# Altium integrated library Stm32.IntLib: 3 symbols
Pins are listed as number, name and electrical type; pins without a type are passive.

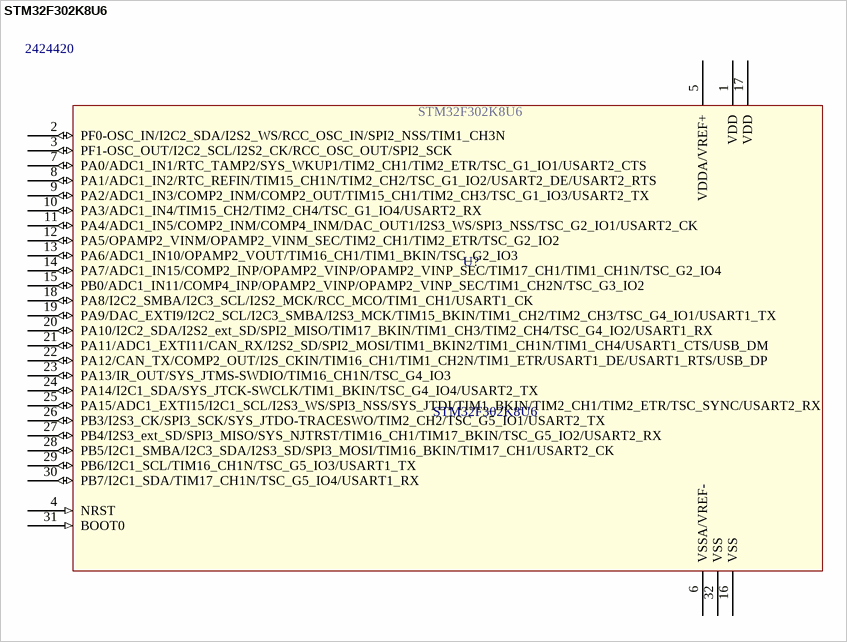
[diagram p0: symbol STM32F302K8U6]

## STM32F302K8U6
designator U?  Supplier Part Number 1: 2424420
Manufacturer: STMICROELECTRONICS; Pricing: 1=0.5, 25=0.4, 100=0.33, 250=0.27, 500=0.228, 2000=0.16, 2000=0.157, 20000=0.154 (EUR); Supplier 1: Farnell; Manufacturer Part Number: STM32F302K8U6
footprint QFN50P500X500X60_HS-33N (QFN, 32-Leads, Body 5,00x5,00mm, Pitch 0,50mm, Thermal Pad 3,50x3,50mm, IPC Medium Density)
pins: 1 VDD (power), 2 PF0-OSC_IN/I2C2_SDA/I2S2_WS/RCC_OSC_IN/SPI2_NSS/TIM1_CH3N (io), 3 PF1-OSC_OUT/I2C2_SCL/I2S2_CK/RCC_OSC_OUT/SPI2_SCK (io), 4 NRST (in), 5 VDDA/VREF+ (power), 6 VSSA/VREF- (power), 7 PA0/ADC1_IN1/RTC_TAMP2/SYS_WKUP1/TIM2_CH1/TIM2_ETR/TSC_G1_IO1/USART2_CTS (io), 8 PA1/ADC1_IN2/RTC_REFIN/TIM15_CH1N/TIM2_CH2/TSC_G1_IO2/USART2_DE/USART2_RTS (io), 9 PA2/ADC1_IN3/COMP2_INM/COMP2_OUT/TIM15_CH1/TIM2_CH3/TSC_G1_IO3/USART2_TX (io), 10 PA3/ADC1_IN4/TIM15_CH2/TIM2_CH4/TSC_G1_IO4/USART2_RX (io), 11 PA4/ADC1_IN5/COMP2_INM/COMP4_INM/DAC_OUT1/I2S3_WS/SPI3_NSS/TSC_G2_IO1/USART2_CK (io), 12 PA5/OPAMP2_VINM/OPAMP2_VINM_SEC/TIM2_CH1/TIM2_ETR/TSC_G2_IO2 (io), 13 PA6/ADC1_IN10/OPAMP2_VOUT/TIM16_CH1/TIM1_BKIN/TSC_G2_IO3 (io), 14 PA7/ADC1_IN15/COMP2_INP/OPAMP2_VINP/OPAMP2_VINP_SEC/TIM17_CH1/TIM1_CH1N/TSC_G2_IO4 (io), 15 PB0/ADC1_IN11/COMP4_INP/OPAMP2_VINP/OPAMP2_VINP_SEC/TIM1_CH2N/TSC_G3_IO2 (io), 16 VSS (power), 17 VDD (power), 18 PA8/I2C2_SMBA/I2C3_SCL/I2S2_MCK/RCC_MCO/TIM1_CH1/USART1_CK (io), 19 PA9/DAC_EXTI9/I2C2_SCL/I2C3_SMBA/I2S3_MCK/TIM15_BKIN/TIM1_CH2/TIM2_CH3/TSC_G4_IO1/USART1_TX (io), 20 PA10/I2C2_SDA/I2S2_ext_SD/SPI2_MISO/TIM17_BKIN/TIM1_CH3/TIM2_CH4/TSC_G4_IO2/USART1_RX (io), 21 PA11/ADC1_EXTI11/CAN_RX/I2S2_SD/SPI2_MOSI/TIM1_BKIN2/TIM1_CH1N/TIM1_CH4/USART1_CTS/USB_DM (io), 22 PA12/CAN_TX/COMP2_OUT/I2S_CKIN/TIM16_CH1/TIM1_CH2N/TIM1_ETR/USART1_DE/USART1_RTS/USB_DP (io), 23 PA13/IR_OUT/SYS_JTMS-SWDIO/TIM16_CH1N/TSC_G4_IO3 (io), 24 PA14/I2C1_SDA/SYS_JTCK-SWCLK/TIM1_BKIN/TSC_G4_IO4/USART2_TX (io), 25 PA15/ADC1_EXTI15/I2C1_SCL/I2S3_WS/SPI3_NSS/SYS_JTDI/TIM1_BKIN/TIM2_CH1/TIM2_ETR/TSC_SYNC/USART2_RX (io), 26 PB3/I2S3_CK/SPI3_SCK/SYS_JTDO-TRACESWO/TIM2_CH2/TSC_G5_IO1/USART2_TX (io), 27 PB4/I2S3_ext_SD/SPI3_MISO/SYS_NJTRST/TIM16_CH1/TIM17_BKIN/TSC_G5_IO2/USART2_RX (io), 28 PB5/I2C1_SMBA/I2C3_SDA/I2S3_SD/SPI3_MOSI/TIM16_BKIN/TIM17_CH1/USART2_CK (io), 29 PB6/I2C1_SCL/TIM16_CH1N/TSC_G5_IO3/USART1_TX (io), 30 PB7/I2C1_SDA/TIM17_CH1N/TSC_G5_IO4/USART1_RX (io), 31 BOOT0 (in), 32 VSS (power)


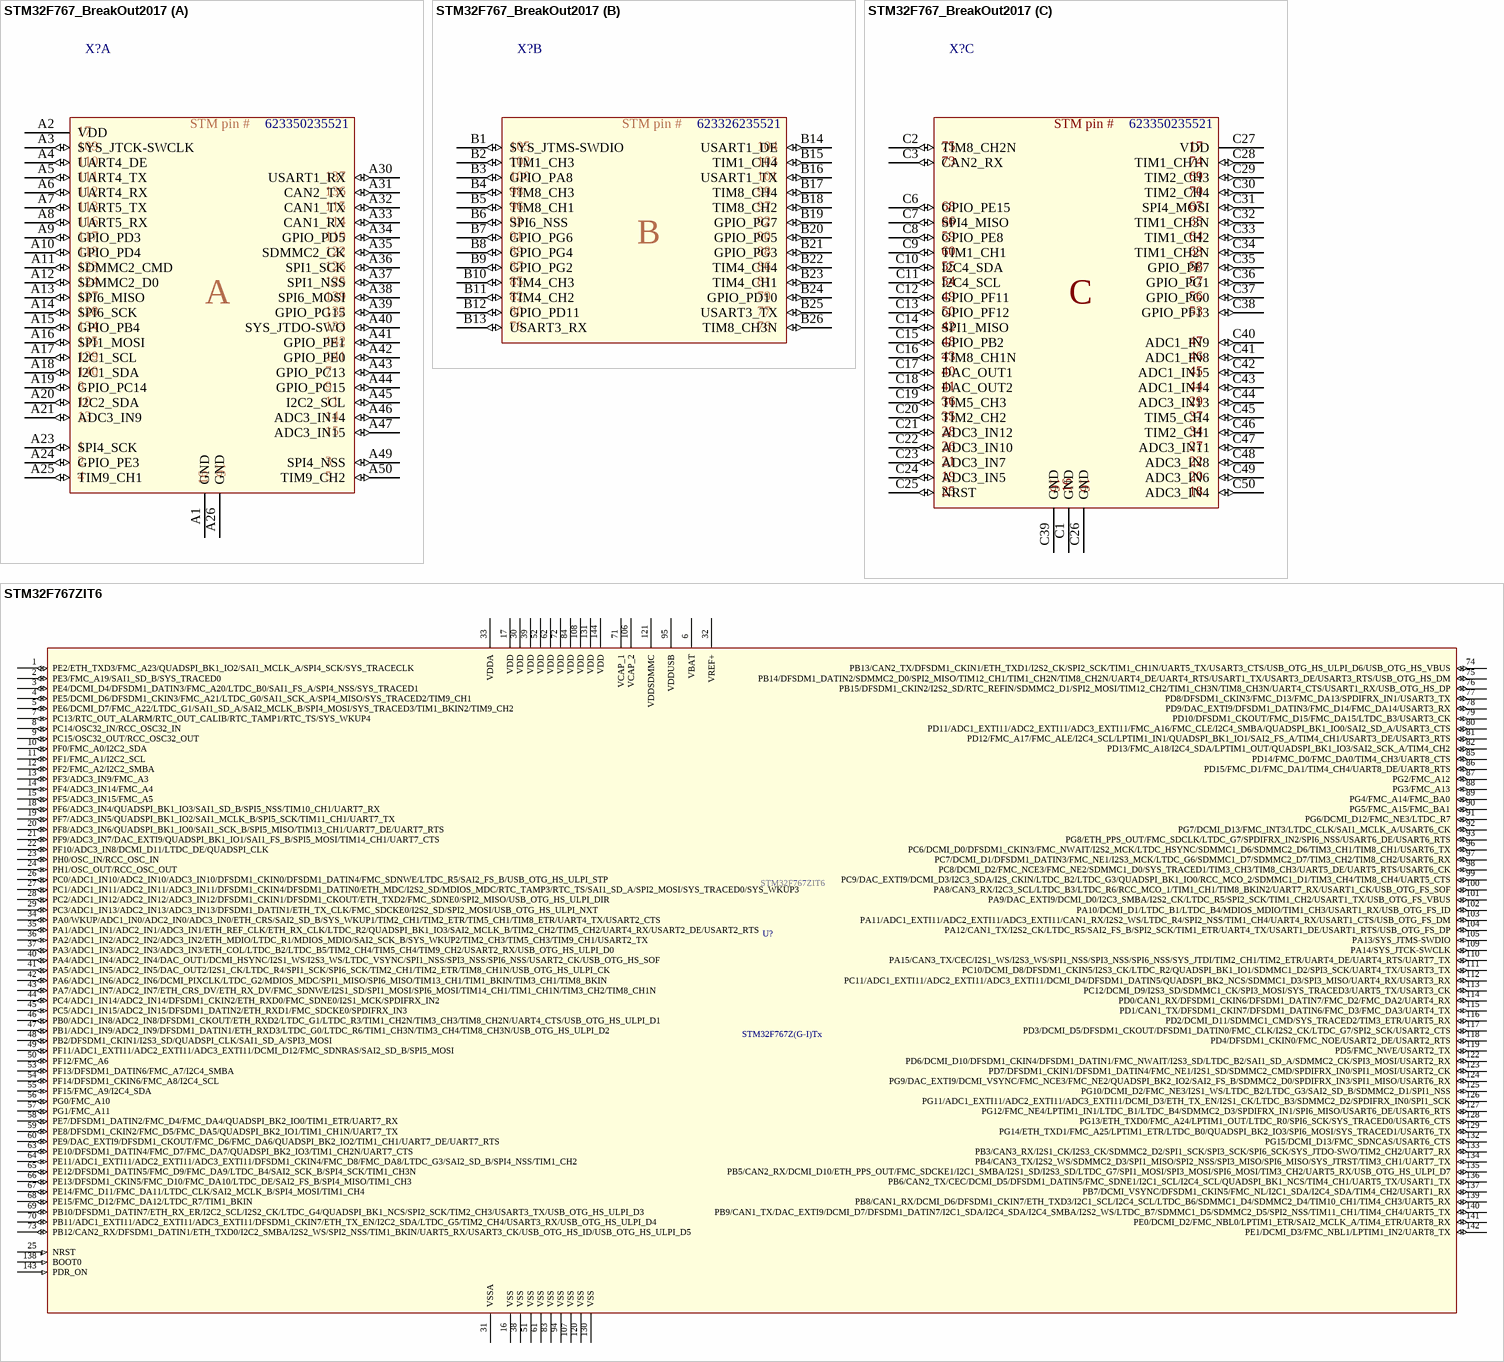
[diagram p1: symbols STM32F767_BreakOut2017 to STM32F767ZIT6]

## STM32F767_BreakOut2017
designator X?, comment 623326235521+2x 623350235521  (value not drawn)
BreakOut 2017 for STM32F767; Manufacturer: Wurth Electronics Inc.; ComponentLink1URL: https://github.com/goldobot/ELEC/tree/master/2-PROJ/4-BreakOut_2017; ComponentLink1Description: link to project on GitHub; Manufacturer Part Number: 623326235521+2x 623350235521
part A pins: A1 GND (power), A2 VDD (power), A3 SYS_JTCK-SWCLK (io), A4 UART4_DE (io), A5 UART4_TX (io), A6 UART4_RX (io), A7 UART5_TX (io), A8 UART5_RX (io), A9 GPIO_PD3 (io), A10 GPIO_PD4 (io), A11 SDMMC2_CMD (io), A12 SDMMC2_D0 (io), A13 SPI6_MISO (io), A14 SPI6_SCK (io), A15 GPIO_PB4 (io), A16 SPI1_MOSI (io), A17 I2C1_SCL (io), A18 I2C1_SDA (io), A19 GPIO_PC14 (io), A20 I2C2_SDA (io), A21 ADC3_IN9 (io), A22 NC (io) hidden, A23 SPI4_SCK (io), A24 GPIO_PE3 (io), A25 TIM9_CH1 (io), A26 GND (power), A27 NC (io) hidden, A28 NC (io) hidden, A29 NC (io) hidden, A30 USART1_RX (io), A31 CAN2_TX (io), A32 CAN1_TX (io), A33 CAN1_RX (io), A34 GPIO_PD5 (io), A35 SDMMC2_CK (io), A36 SPI1_SCK (io), A37 SPI1_NSS (io), A38 SPI6_MOSI (io), A39 GPIO_PG15 (io), A40 SYS_JTDO-SWO (io), A41 GPIO_PE1 (io), A42 GPIO_PE0 (io), A43 GPIO_PC13 (io), A44 GPIO_PC15 (io), A45 I2C2_SCL (io), A46 ADC3_IN14 (io), A47 ADC3_IN15 (io), A48 NC (io) hidden, A49 SPI4_NSS (io), A50 TIM9_CH2 (io)
part B pins: B1 SYS_JTMS-SWDIO (io), B2 TIM1_CH3 (io), B3 GPIO_PA8 (io), B4 TIM8_CH3 (io), B5 TIM8_CH1 (io), B6 SPI6_NSS (io), B7 GPIO_PG6 (io), B8 GPIO_PG4 (io), B9 GPIO_PG2 (io), B10 TIM4_CH3 (io), B11 TIM4_CH2 (io), B12 GPIO_PD11 (io), B13 USART3_RX (io), B14 USART1_DE (io), B15 TIM1_CH4 (io), B16 USART1_TX (io), B17 TIM8_CH4 (io), B18 TIM8_CH2 (io), B19 GPIO_PG7 (io), B20 GPIO_PG5 (io), B21 GPIO_PG3 (io), B22 TIM4_CH4 (io), B23 TIM4_CH1 (io), B24 GPIO_PD10 (io), B25 USART3_TX (io), B26 TIM8_CH3N (io)
part C pins: C1 GND (power), C2 TIM8_CH2N (io), C3 CAN2_RX (io), C4 NC (io) hidden, C5 NC (io) hidden, C6 GPIO_PE15 (io), C7 SPI4_MISO (io), C8 GPIO_PE8 (io), C9 TIM1_CH1 (io), C10 I2C4_SDA (io), C11 I2C4_SCL (io), C12 GPIO_PF11 (io), C13 GPIO_PF12 (io), C14 SPI1_MISO (io), C15 GPIO_PB2 (io), C16 TIM8_CH1N (io), C17 DAC_OUT1 (io), C18 DAC_OUT2 (io), C19 TIM5_CH3 (io), C20 TIM2_CH2 (io), C21 ADC3_IN12 (io), C22 ADC3_IN10 (io), C23 ADC3_IN7 (io), C24 ADC3_IN5 (io), C25 NRST (io), C26 GND (power), C27 VDD (power), C28 TIM1_CH1N (io), C29 TIM2_CH3 (io), C30 TIM2_CH4 (io), C31 SPI4_MOSI (io), C32 TIM1_CH3N (io), C33 TIM1_CH2 (io), C34 TIM1_CH2N (io), C35 GPIO_PE7 (io), C36 GPIO_PG1 (io), C37 GPIO_PG0 (io), C38 GPIO_PF13 (io), C39 GND (power), C40 ADC1_IN9 (io), C41 ADC1_IN8 (io), C42 ADC1_IN15 (io), C43 ADC1_IN14 (io), C44 ADC3_IN13 (io), C45 TIM5_CH4 (io), C46 TIM2_CH1 (io), C47 ADC3_IN11 (io), C48 ADC3_IN8 (io), C49 ADC3_IN6 (io), C50 ADC3_IN4 (io)
part A text: STM pin #; 623350235521; 17; 109; 110; 111; 137; 112; 136; 113; 115; 116; 114; 117; 119; 118; 122; 123; 126; 124; 125; 127; 129; A; 128; 132; 134; 133; 135; 142; 139; 141; 140; 7; 8; 9; 10; 11; 13; 14; 15; 1; 16; 2; 3; 4; 5
part B text: STM pin #; 623326235521; 105; 104; 102; 103; 100; 101; 98; 99; 96; 97; 93; 92; 91; 90; B; 89; 88; 87; 86; 85; 81; 82; 79; 80; 77; 78; 76
part C text: STM pin #; 623350235521; 75; 17; 73; 74; 69; 70; 68; 67; 66; 65; 59; 64; 60; 63; 55; 58; 54; 57; 49; 56; C; 50; 53; 42; 48; 47; 43; 46; 40; 45; 41; 44; 36; 29; 35; 37; 28; 34; 26; 27; 21; 22; 16; 19; 20; 25; 18

## STM32F767ZIT6
designator U?, comment STM32F767Z(G-I)Tx
STM32F767ZIT6; Manufacturer: STMICROELECTRONICS; Pricing: 1=0.5, 25=0.4, 100=0.33, 250=0.27, 500=0.228, 2000=0.16, 2000=0.157, 20000=0.154 (EUR); ComponentLink1URL: http://www.farnell.com/datasheets/2282439.pdf; ComponentLink1Description: Datasheet; Supplier 1: Farnell; Supplier Part Number 1: 2535499; Manufacturer Part Number: STM32F767ZIT6
footprint TSQFP50P2200X2200X160-144N (TSQFP, 144-Leads, Body 20,00x20,00mm, Pitch 0,50mm, IPC Medium Density)
pins: 1 PE2/ETH_TXD3/FMC_A23/QUADSPI_BK1_IO2/SAI1_MCLK_A/SPI4_SCK/SYS_TRACECLK (io), 2 PE3/FMC_A19/SAI1_SD_B/SYS_TRACED0 (io), 3 PE4/DCMI_D4/DFSDM1_DATIN3/FMC_A20/LTDC_B0/SAI1_FS_A/SPI4_NSS/SYS_TRACED1 (io), 4 PE5/DCMI_D6/DFSDM1_CKIN3/FMC_A21/LTDC_G0/SAI1_SCK_A/SPI4_MISO/SYS_TRACED2/TIM9_CH1 (io), 5 PE6/DCMI_D7/FMC_A22/LTDC_G1/SAI1_SD_A/SAI2_MCLK_B/SPI4_MOSI/SYS_TRACED3/TIM1_BKIN2/TIM9_CH2 (io), 6 VBAT (power), 7 PC13/RTC_OUT_ALARM/RTC_OUT_CALIB/RTC_TAMP1/RTC_TS/SYS_WKUP4 (io), 8 PC14/OSC32_IN/RCC_OSC32_IN (io), 9 PC15/OSC32_OUT/RCC_OSC32_OUT (io), 10 PF0/FMC_A0/I2C2_SDA (io), 11 PF1/FMC_A1/I2C2_SCL (io), 12 PF2/FMC_A2/I2C2_SMBA (io), 13 PF3/ADC3_IN9/FMC_A3 (io), 14 PF4/ADC3_IN14/FMC_A4 (io), 15 PF5/ADC3_IN15/FMC_A5 (io), 16 VSS (power), 17 VDD (power), 18 PF6/ADC3_IN4/QUADSPI_BK1_IO3/SAI1_SD_B/SPI5_NSS/TIM10_CH1/UART7_RX (io), 19 PF7/ADC3_IN5/QUADSPI_BK1_IO2/SAI1_MCLK_B/SPI5_SCK/TIM11_CH1/UART7_TX (io), 20 PF8/ADC3_IN6/QUADSPI_BK1_IO0/SAI1_SCK_B/SPI5_MISO/TIM13_CH1/UART7_DE/UART7_RTS (io), 21 PF9/ADC3_IN7/DAC_EXTI9/QUADSPI_BK1_IO1/SAI1_FS_B/SPI5_MOSI/TIM14_CH1/UART7_CTS (io), 22 PF10/ADC3_IN8/DCMI_D11/LTDC_DE/QUADSPI_CLK (io), 23 PH0/OSC_IN/RCC_OSC_IN (io), 24 PH1/OSC_OUT/RCC_OSC_OUT (io), 25 NRST (in), 26 PC0/ADC1_IN10/ADC2_IN10/ADC3_IN10/DFSDM1_CKIN0/DFSDM1_DATIN4/FMC_SDNWE/LTDC_R5/SAI2_FS_B/USB_OTG_HS_ULPI_STP (io), 27 PC1/ADC1_IN11/ADC2_IN11/ADC3_IN11/DFSDM1_CKIN4/DFSDM1_DATIN0/ETH_MDC/I2S2_SD/MDIOS_MDC/RTC_TAMP3/RTC_TS/SAI1_SD_A/SPI2_MOSI/SYS_TRACED0/SYS_WKUP3 (io), 28 PC2/ADC1_IN12/ADC2_IN12/ADC3_IN12/DFSDM1_CKIN1/DFSDM1_CKOUT/ETH_TXD2/FMC_SDNE0/SPI2_MISO/USB_OTG_HS_ULPI_DIR (io), 29 PC3/ADC1_IN13/ADC2_IN13/ADC3_IN13/DFSDM1_DATIN1/ETH_TX_CLK/FMC_SDCKE0/I2S2_SD/SPI2_MOSI/USB_OTG_HS_ULPI_NXT (io), 30 VDD (power), 31 VSSA (power), 32 VREF+, 33 VDDA (power), 34 PA0/WKUP/ADC1_IN0/ADC2_IN0/ADC3_IN0/ETH_CRS/SAI2_SD_B/SYS_WKUP1/TIM2_CH1/TIM2_ETR/TIM5_CH1/TIM8_ETR/UART4_TX/USART2_CTS (io), 35 PA1/ADC1_IN1/ADC2_IN1/ADC3_IN1/ETH_REF_CLK/ETH_RX_CLK/LTDC_R2/QUADSPI_BK1_IO3/SAI2_MCLK_B/TIM2_CH2/TIM5_CH2/UART4_RX/USART2_DE/USART2_RTS (io), 36 PA2/ADC1_IN2/ADC2_IN2/ADC3_IN2/ETH_MDIO/LTDC_R1/MDIOS_MDIO/SAI2_SCK_B/SYS_WKUP2/TIM2_CH3/TIM5_CH3/TIM9_CH1/USART2_TX (io), 37 PA3/ADC1_IN3/ADC2_IN3/ADC3_IN3/ETH_COL/LTDC_B2/LTDC_B5/TIM2_CH4/TIM5_CH4/TIM9_CH2/USART2_RX/USB_OTG_HS_ULPI_D0 (io), 38 VSS (power), 39 VDD (power), 40 PA4/ADC1_IN4/ADC2_IN4/DAC_OUT1/DCMI_HSYNC/I2S1_WS/I2S3_WS/LTDC_VSYNC/SPI1_NSS/SPI3_NSS/SPI6_NSS/USART2_CK/USB_OTG_HS_SOF (io), 41 PA5/ADC1_IN5/ADC2_IN5/DAC_OUT2/I2S1_CK/LTDC_R4/SPI1_SCK/SPI6_SCK/TIM2_CH1/TIM2_ETR/TIM8_CH1N/USB_OTG_HS_ULPI_CK (io), 42 PA6/ADC1_IN6/ADC2_IN6/DCMI_PIXCLK/LTDC_G2/MDIOS_MDC/SPI1_MISO/SPI6_MISO/TIM13_CH1/TIM1_BKIN/TIM3_CH1/TIM8_BKIN (io), 43 PA7/ADC1_IN7/ADC2_IN7/ETH_CRS_DV/ETH_RX_DV/FMC_SDNWE/I2S1_SD/SPI1_MOSI/SPI6_MOSI/TIM14_CH1/TIM1_CH1N/TIM3_CH2/TIM8_CH1N (io), 44 PC4/ADC1_IN14/ADC2_IN14/DFSDM1_CKIN2/ETH_RXD0/FMC_SDNE0/I2S1_MCK/SPDIFRX_IN2 (io), 45 PC5/ADC1_IN15/ADC2_IN15/DFSDM1_DATIN2/ETH_RXD1/FMC_SDCKE0/SPDIFRX_IN3 (io), 46 PB0/ADC1_IN8/ADC2_IN8/DFSDM1_CKOUT/ETH_RXD2/LTDC_G1/LTDC_R3/TIM1_CH2N/TIM3_CH3/TIM8_CH2N/UART4_CTS/USB_OTG_HS_ULPI_D1 (io), 47 PB1/ADC1_IN9/ADC2_IN9/DFSDM1_DATIN1/ETH_RXD3/LTDC_G0/LTDC_R6/TIM1_CH3N/TIM3_CH4/TIM8_CH3N/USB_OTG_HS_ULPI_D2 (io), 48 PB2/DFSDM1_CKIN1/I2S3_SD/QUADSPI_CLK/SAI1_SD_A/SPI3_MOSI (io), 49 PF11/ADC1_EXTI11/ADC2_EXTI11/ADC3_EXTI11/DCMI_D12/FMC_SDNRAS/SAI2_SD_B/SPI5_MOSI (io), 50 PF12/FMC_A6 (io), 51 VSS (power), 52 VDD (power), 53 PF13/DFSDM1_DATIN6/FMC_A7/I2C4_SMBA (io), 54 PF14/DFSDM1_CKIN6/FMC_A8/I2C4_SCL (io), 55 PF15/FMC_A9/I2C4_SDA (io), 56 PG0/FMC_A10 (io), 57 PG1/FMC_A11 (io), 58 PE7/DFSDM1_DATIN2/FMC_D4/FMC_DA4/QUADSPI_BK2_IO0/TIM1_ETR/UART7_RX (io), 59 PE8/DFSDM1_CKIN2/FMC_D5/FMC_DA5/QUADSPI_BK2_IO1/TIM1_CH1N/UART7_TX (io), 60 PE9/DAC_EXTI9/DFSDM1_CKOUT/FMC_D6/FMC_DA6/QUADSPI_BK2_IO2/TIM1_CH1/UART7_DE/UART7_RTS (io), 61 VSS (power), 62 VDD (power), 63 PE10/DFSDM1_DATIN4/FMC_D7/FMC_DA7/QUADSPI_BK2_IO3/TIM1_CH2N/UART7_CTS (io), 64 PE11/ADC1_EXTI11/ADC2_EXTI11/ADC3_EXTI11/DFSDM1_CKIN4/FMC_D8/FMC_DA8/LTDC_G3/SAI2_SD_B/SPI4_NSS/TIM1_CH2 (io), 65 PE12/DFSDM1_DATIN5/FMC_D9/FMC_DA9/LTDC_B4/SAI2_SCK_B/SPI4_SCK/TIM1_CH3N (io), 66 PE13/DFSDM1_CKIN5/FMC_D10/FMC_DA10/LTDC_DE/SAI2_FS_B/SPI4_MISO/TIM1_CH3 (io), 67 PE14/FMC_D11/FMC_DA11/LTDC_CLK/SAI2_MCLK_B/SPI4_MOSI/TIM1_CH4 (io), 68 PE15/FMC_D12/FMC_DA12/LTDC_R7/TIM1_BKIN (io), 69 PB10/DFSDM1_DATIN7/ETH_RX_ER/I2C2_SCL/I2S2_CK/LTDC_G4/QUADSPI_BK1_NCS/SPI2_SCK/TIM2_CH3/USART3_TX/USB_OTG_HS_ULPI_D3 (io), 70 PB11/ADC1_EXTI11/ADC2_EXTI11/ADC3_EXTI11/DFSDM1_CKIN7/ETH_TX_EN/I2C2_SDA/LTDC_G5/TIM2_CH4/USART3_RX/USB_OTG_HS_ULPI_D4 (io), 71 VCAP_1 (power), 72 VDD (power), 73 PB12/CAN2_RX/DFSDM1_DATIN1/ETH_TXD0/I2C2_SMBA/I2S2_WS/SPI2_NSS/TIM1_BKIN/UART5_RX/USART3_CK/USB_OTG_HS_ID/USB_OTG_HS_ULPI_D5 (io), 74 PB13/CAN2_TX/DFSDM1_CKIN1/ETH_TXD1/I2S2_CK/SPI2_SCK/TIM1_CH1N/UART5_TX/USART3_CTS/USB_OTG_HS_ULPI_D6/USB_OTG_HS_VBUS (io), 75 PB14/DFSDM1_DATIN2/SDMMC2_D0/SPI2_MISO/TIM12_CH1/TIM1_CH2N/TIM8_CH2N/UART4_DE/UART4_RTS/USART1_TX/USART3_DE/USART3_RTS/USB_OTG_HS_DM (io), 76 PB15/DFSDM1_CKIN2/I2S2_SD/RTC_REFIN/SDMMC2_D1/SPI2_MOSI/TIM12_CH2/TIM1_CH3N/TIM8_CH3N/UART4_CTS/USART1_RX/USB_OTG_HS_DP (io), 77 PD8/DFSDM1_CKIN3/FMC_D13/FMC_DA13/SPDIFRX_IN1/USART3_TX (io), 78 PD9/DAC_EXTI9/DFSDM1_DATIN3/FMC_D14/FMC_DA14/USART3_RX (io), 79 PD10/DFSDM1_CKOUT/FMC_D15/FMC_DA15/LTDC_B3/USART3_CK (io), 80 PD11/ADC1_EXTI11/ADC2_EXTI11/ADC3_EXTI11/FMC_A16/FMC_CLE/I2C4_SMBA/QUADSPI_BK1_IO0/SAI2_SD_A/USART3_CTS (io), 81 PD12/FMC_A17/FMC_ALE/I2C4_SCL/LPTIM1_IN1/QUADSPI_BK1_IO1/SAI2_FS_A/TIM4_CH1/USART3_DE/USART3_RTS (io), 82 PD13/FMC_A18/I2C4_SDA/LPTIM1_OUT/QUADSPI_BK1_IO3/SAI2_SCK_A/TIM4_CH2 (io), 83 VSS (power), 84 VDD (power), 85 PD14/FMC_D0/FMC_DA0/TIM4_CH3/UART8_CTS (io), 86 PD15/FMC_D1/FMC_DA1/TIM4_CH4/UART8_DE/UART8_RTS (io), 87 PG2/FMC_A12 (io), 88 PG3/FMC_A13 (io), 89 PG4/FMC_A14/FMC_BA0 (io), 90 PG5/FMC_A15/FMC_BA1 (io), 91 PG6/DCMI_D12/FMC_NE3/LTDC_R7 (io), 92 PG7/DCMI_D13/FMC_INT3/LTDC_CLK/SAI1_MCLK_A/USART6_CK (io), 93 PG8/ETH_PPS_OUT/FMC_SDCLK/LTDC_G7/SPDIFRX_IN2/SPI6_NSS/USART6_DE/USART6_RTS (io), 94 VSS (power), 95 VDDUSB (power), 96 PC6/DCMI_D0/DFSDM1_CKIN3/FMC_NWAIT/I2S2_MCK/LTDC_HSYNC/SDMMC1_D6/SDMMC2_D6/TIM3_CH1/TIM8_CH1/USART6_TX (io), 97 PC7/DCMI_D1/DFSDM1_DATIN3/FMC_NE1/I2S3_MCK/LTDC_G6/SDMMC1_D7/SDMMC2_D7/TIM3_CH2/TIM8_CH2/USART6_RX (io), 98 PC8/DCMI_D2/FMC_NCE3/FMC_NE2/SDMMC1_D0/SYS_TRACED1/TIM3_CH3/TIM8_CH3/UART5_DE/UART5_RTS/USART6_CK (io), 99 PC9/DAC_EXTI9/DCMI_D3/I2C3_SDA/I2S_CKIN/LTDC_B2/LTDC_G3/QUADSPI_BK1_IO0/RCC_MCO_2/SDMMC1_D1/TIM3_CH4/TIM8_CH4/UART5_CTS (io), 100 PA8/CAN3_RX/I2C3_SCL/LTDC_B3/LTDC_R6/RCC_MCO_1/TIM1_CH1/TIM8_BKIN2/UART7_RX/USART1_CK/USB_OTG_FS_SOF (io), 101 PA9/DAC_EXTI9/DCMI_D0/I2C3_SMBA/I2S2_CK/LTDC_R5/SPI2_SCK/TIM1_CH2/USART1_TX/USB_OTG_FS_VBUS (io), 102 PA10/DCMI_D1/LTDC_B1/LTDC_B4/MDIOS_MDIO/TIM1_CH3/USART1_RX/USB_OTG_FS_ID (io), 103 PA11/ADC1_EXTI11/ADC2_EXTI11/ADC3_EXTI11/CAN1_RX/I2S2_WS/LTDC_R4/SPI2_NSS/TIM1_CH4/UART4_RX/USART1_CTS/USB_OTG_FS_DM (io), 104 PA12/CAN1_TX/I2S2_CK/LTDC_R5/SAI2_FS_B/SPI2_SCK/TIM1_ETR/UART4_TX/USART1_DE/USART1_RTS/USB_OTG_FS_DP (io), 105 PA13/SYS_JTMS-SWDIO (io), 106 VCAP_2 (power), 107 VSS (power), 108 VDD (power), 109 PA14/SYS_JTCK-SWCLK (io), 110 PA15/CAN3_TX/CEC/I2S1_WS/I2S3_WS/SPI1_NSS/SPI3_NSS/SPI6_NSS/SYS_JTDI/TIM2_CH1/TIM2_ETR/UART4_DE/UART4_RTS/UART7_TX (io), 111 PC10/DCMI_D8/DFSDM1_CKIN5/I2S3_CK/LTDC_R2/QUADSPI_BK1_IO1/SDMMC1_D2/SPI3_SCK/UART4_TX/USART3_TX (io), 112 PC11/ADC1_EXTI11/ADC2_EXTI11/ADC3_EXTI11/DCMI_D4/DFSDM1_DATIN5/QUADSPI_BK2_NCS/SDMMC1_D3/SPI3_MISO/UART4_RX/USART3_RX (io), 113 PC12/DCMI_D9/I2S3_SD/SDMMC1_CK/SPI3_MOSI/SYS_TRACED3/UART5_TX/USART3_CK (io), 114 PD0/CAN1_RX/DFSDM1_CKIN6/DFSDM1_DATIN7/FMC_D2/FMC_DA2/UART4_RX (io), 115 PD1/CAN1_TX/DFSDM1_CKIN7/DFSDM1_DATIN6/FMC_D3/FMC_DA3/UART4_TX (io), 116 PD2/DCMI_D11/SDMMC1_CMD/SYS_TRACED2/TIM3_ETR/UART5_RX (io), 117 PD3/DCMI_D5/DFSDM1_CKOUT/DFSDM1_DATIN0/FMC_CLK/I2S2_CK/LTDC_G7/SPI2_SCK/USART2_CTS (io), 118 PD4/DFSDM1_CKIN0/FMC_NOE/USART2_DE/USART2_RTS (io), 119 PD5/FMC_NWE/USART2_TX (io), 120 VSS (power), 121 VDDSDMMC (power), 122 PD6/DCMI_D10/DFSDM1_CKIN4/DFSDM1_DATIN1/FMC_NWAIT/I2S3_SD/LTDC_B2/SAI1_SD_A/SDMMC2_CK/SPI3_MOSI/USART2_RX (io), 123 PD7/DFSDM1_CKIN1/DFSDM1_DATIN4/FMC_NE1/I2S1_SD/SDMMC2_CMD/SPDIFRX_IN0/SPI1_MOSI/USART2_CK (io), 124 PG9/DAC_EXTI9/DCMI_VSYNC/FMC_NCE3/FMC_NE2/QUADSPI_BK2_IO2/SAI2_FS_B/SDMMC2_D0/SPDIFRX_IN3/SPI1_MISO/USART6_RX (io), 125 PG10/DCMI_D2/FMC_NE3/I2S1_WS/LTDC_B2/LTDC_G3/SAI2_SD_B/SDMMC2_D1/SPI1_NSS (io), 126 PG11/ADC1_EXTI11/ADC2_EXTI11/ADC3_EXTI11/DCMI_D3/ETH_TX_EN/I2S1_CK/LTDC_B3/SDMMC2_D2/SPDIFRX_IN0/SPI1_SCK (io), 127 PG12/FMC_NE4/LPTIM1_IN1/LTDC_B1/LTDC_B4/SDMMC2_D3/SPDIFRX_IN1/SPI6_MISO/USART6_DE/USART6_RTS (io), 128 PG13/ETH_TXD0/FMC_A24/LPTIM1_OUT/LTDC_R0/SPI6_SCK/SYS_TRACED0/USART6_CTS (io), 129 PG14/ETH_TXD1/FMC_A25/LPTIM1_ETR/LTDC_B0/QUADSPI_BK2_IO3/SPI6_MOSI/SYS_TRACED1/USART6_TX (io), 130 VSS (power), 131 VDD (power), 132 PG15/DCMI_D13/FMC_SDNCAS/USART6_CTS (io), 133 PB3/CAN3_RX/I2S1_CK/I2S3_CK/SDMMC2_D2/SPI1_SCK/SPI3_SCK/SPI6_SCK/SYS_JTDO-SWO/TIM2_CH2/UART7_RX (io), 134 PB4/CAN3_TX/I2S2_WS/SDMMC2_D3/SPI1_MISO/SPI2_NSS/SPI3_MISO/SPI6_MISO/SYS_JTRST/TIM3_CH1/UART7_TX (io), 135 PB5/CAN2_RX/DCMI_D10/ETH_PPS_OUT/FMC_SDCKE1/I2C1_SMBA/I2S1_SD/I2S3_SD/LTDC_G7/SPI1_MOSI/SPI3_MOSI/SPI6_MOSI/TIM3_CH2/UART5_RX/USB_OTG_HS_ULPI_D7 (io), 136 PB6/CAN2_TX/CEC/DCMI_D5/DFSDM1_DATIN5/FMC_SDNE1/I2C1_SCL/I2C4_SCL/QUADSPI_BK1_NCS/TIM4_CH1/UART5_TX/USART1_TX (io), 137 PB7/DCMI_VSYNC/DFSDM1_CKIN5/FMC_NL/I2C1_SDA/I2C4_SDA/TIM4_CH2/USART1_RX (io), 138 BOOT0 (in), 139 PB8/CAN1_RX/DCMI_D6/DFSDM1_CKIN7/ETH_TXD3/I2C1_SCL/I2C4_SCL/LTDC_B6/SDMMC1_D4/SDMMC2_D4/TIM10_CH1/TIM4_CH3/UART5_RX (io), 140 PB9/CAN1_TX/DAC_EXTI9/DCMI_D7/DFSDM1_DATIN7/I2C1_SDA/I2C4_SDA/I2C4_SMBA/I2S2_WS/LTDC_B7/SDMMC1_D5/SDMMC2_D5/SPI2_NSS/TIM11_CH1/TIM4_CH4/UART5_TX (io), 141 PE0/DCMI_D2/FMC_NBL0/LPTIM1_ETR/SAI2_MCLK_A/TIM4_ETR/UART8_RX (io), 142 PE1/DCMI_D3/FMC_NBL1/LPTIM1_IN2/UART8_TX (io), 143 PDR_ON (in), 144 VDD (power)